# EAGLE library part V24B12C200BN (library ARVP_Linear_Technology)
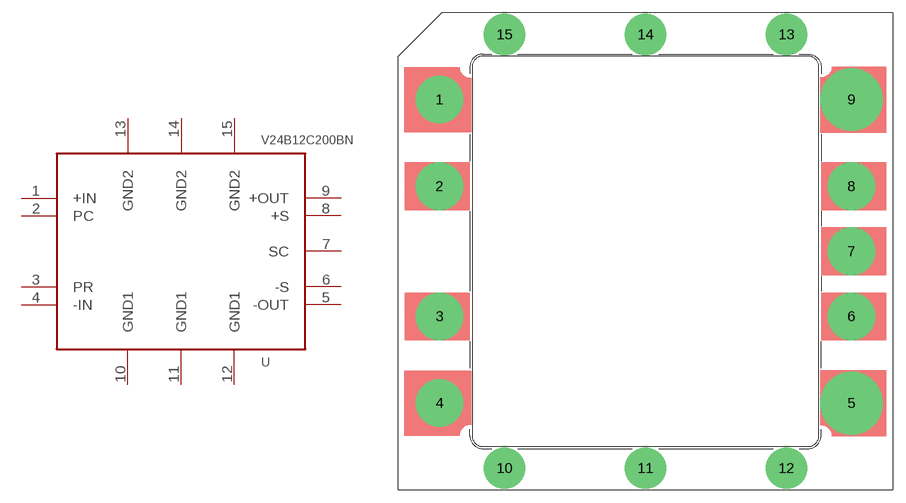
[diagram p3: symbol with the pads of V24B12C200BN; footprint V24B12C200BN]

Designator prefix -

## V24B12C200BN  [V24B12C200BN]
1  +IN  in
2  PC
3  PR
4  -IN  in
5  -OUT  out
6  -S
7  SC
8  +S
9  +OUT  out
10  GND1  pwr
11  GND1  pwr
12  GND1  pwr
13  GND2  pwr
14  GND2  pwr
15  GND2  pwr

## Footprint V24B12C200BN (pad centres in mm)
drill 4.572 pad 4.826 round: 1 -24.13,17.78; 2 -24.13,7.62; 3 -24.13,-7.62; 4 -24.13,-17.78; 6 24.13,-7.62; 7 24.13,0; 8 24.13,7.62
drill 6.35 pad 7.112 round: 5 24.13,-17.78; 9 24.13,17.78
drill 3.048 pad 4.826 round: 10 -16.51,-25.4; 11 0,-25.4; 12 16.51,-25.4; 13 16.51,25.4; 14 0,25.4; 15 -16.51,25.4